# EAGLE library part LM3405 (library Synapseware-transistors)
LM3405 1.6MHz, 1A Constant Current Buck Regulator for Powering LEDs
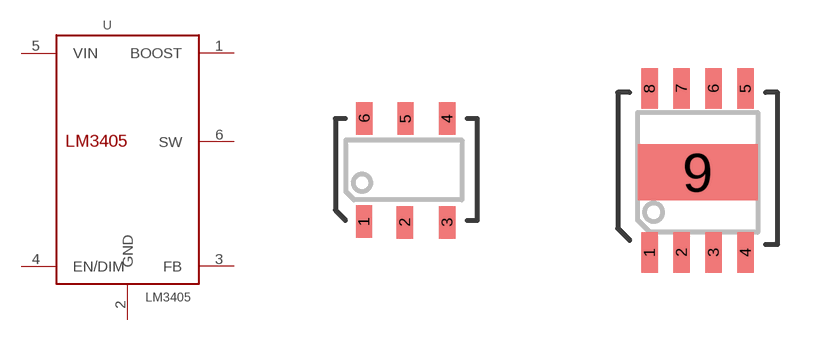
[diagram p6: symbol with the pads of TSOT-6; footprints TSOT-6, MSOP-8]

Designator prefix -

## LM3405TSOT-6  [TSOT-6]
1  BOOST
2  GND
3  FB
4  EN/DIM
5  VIN
6  SW

## LM3405MSOP-8  [MSOP-8]
1  FB
2  GND
4  BOOST
5  SW
6  VIN
7  GND
8  EN/DIM
9  GND

## Footprint TSOT-6 (pad centres in mm)
TSOT-6
smd 0.406 x 0.813: 1 -1.06,-1.3; 2 -0.04,-1.32; 3 1.02,-1.32; 4 1.02,1.27; 5 -0.02,1.27; 6 -1.05,1.28

## Footprint MSOP-8 (pad centres in mm)
3mm x 3mm eMSOP Package with heat sink landing pad
smd 0.41 x 1.02: 1 -1.2,-2; 2 -0.4,-2; 3 0.4,-2; 4 1.2,-2; 5 1.2,2.1; 6 0.4,2.1; 7 -0.4,2.1; 8 -1.2,2.1
smd 3 x 1.4: 9 0,0